# Altium schematic symbol library LMP91000SD.SchLib: 1 symbol
Pins are listed as number, name and electrical type; pins without a type are passive.

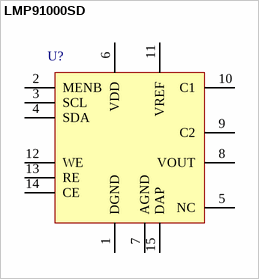
[diagram p0: symbol LMP91000SD]

## LMP91000SD
designator U?  (value not drawn)
pins: 1 DGND, 2 MENB, 3 SCL, 4 SDA, 5 NC, 6 VDD, 7 AGND, 8 VOUT, 9 C2, 10 C1, 11 VREF, 12 WE, 13 RE, 14 CE, 15 DAP